# Altium footprint library USB Micro B Receptacle.PcbLib: 1 footprints
Each footprint in its own frame and in the unit in brackets; x right, y up, seen from the top. Pads: shape width x height; smd on the part's side, far side on the other; paste and mask are expansions set on the pad; w line width, h text height; cw(c..) or ccw(c..) is an arc to the next point about the centre after c.
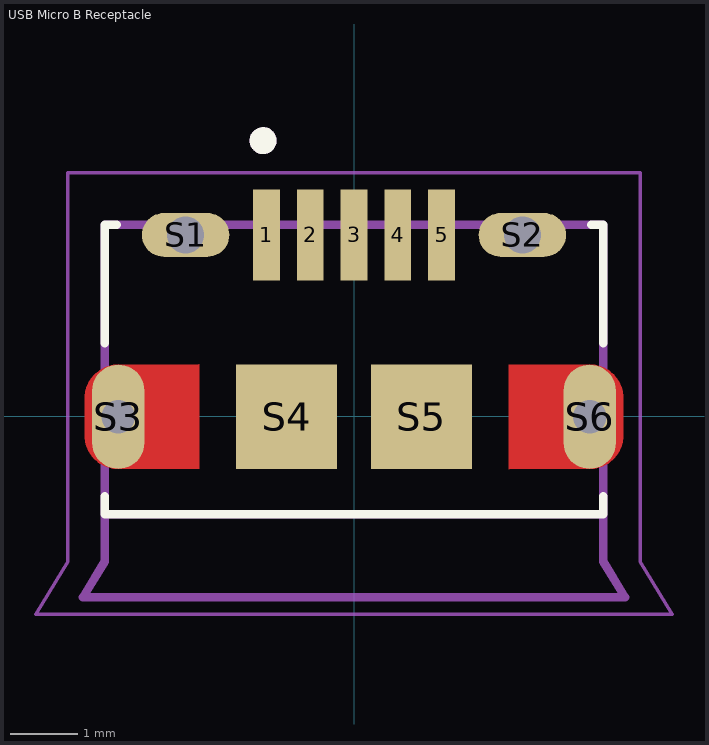
[diagram p0: the footprint, top view; thin cyan lines are the x and y axes]

## USB Micro B Receptacle [mm] "CONN RCPT USB2.0 MICRO B SMD R/A"
pads (11):
  rect 0.4x1.35 smd: 1(-1.3,2.69) 2(-0.65,2.69) 3(0,2.69) 4(0.65,2.69) 5(1.3,2.69)
  oval 1.3x0.65 hole 0.55: S1(-2.5,2.69) S2(2.5,2.69)
  oval 0.775x1.55 hole 0.5: S3(-3.5,-0.01) S6(3.5,-0.01)
  rect 1.5x1.55 smd: S4(-1,-0.01) S5(1,-0.01)
Top Layer:
  region: 193 vertices and 0 holes, not listed, extent -4,-0.785 -2.3,0.77
  region: 193 vertices and 0 holes, not listed, extent 2.3,-0.79 4,0.765
Top Overlay:
  circle w0.2: c-1.35,4.09 r0.1
  lines w0.127: -3.7,-1.19 -3.7,-1.46 3.7,-1.46 3.7,-1.19 ; -3.7,1.085 -3.7,2.84 -3.52,2.84 ; 3.52,2.84 3.7,2.84 3.7,1.085
Top Paste:
  drawing of 6 lines, arcs and shapes, not listed
Top Solder:
  region: -3.6,0.865 -2.2,0.865 -2.2,-0.885 -3.6,-0.885 -3.626,-0.884 -3.652,-0.882 -3.678,-0.879 -3.704,-0.874 -3.729,-0.868 -3.755,-0.861 -3.779,-0.852 -3.803,-0.842 -3.827,-0.831 -3.85,-0.818 -3.872,-0.804 -3.894,-0.79 -3.915,-0.774 -3.935,-0.757 -3.954,-0.739 -3.972,-0.72 -3.989,-0.7 -4.005,-0.679 -4.019,-0.657 -4.033,-0.635 -4.046,-0.612 -4.057,-0.588 -4.067,-0.564 -4.076,-0.54 -4.083,-0.514 -4.089,-0.489 -4.094,-0.463 -4.097,-0.437 -4.099,-0.411 -4.1,-0.385 -4.1,0.365 -4.099,0.391 -4.097,0.417 -4.094,0.443 -4.089,0.469 -4.083,0.494 -4.076,0.52 -4.067,0.544 -4.057,0.568 -4.046,0.592 -4.033,0.615 -4.019,0.637 -4.005,0.659 -3.989,0.68 -3.972,0.7 -3.954,0.719 -3.935,0.737 -3.915,0.754 -3.894,0.77 -3.872,0.784 -3.85,0.798 -3.827,0.811 -3.803,0.822 -3.779,0.832 -3.755,0.841 -3.729,0.848 -3.704,0.854 -3.678,0.859 -3.652,0.862 -3.626,0.864
  region: 3.6,-0.885 2.2,-0.885 2.2,0.865 3.6,0.865 3.626,0.864 3.652,0.862 3.678,0.859 3.704,0.854 3.729,0.848 3.755,0.841 3.779,0.832 3.803,0.822 3.827,0.811 3.85,0.798 3.872,0.784 3.894,0.77 3.915,0.754 3.935,0.737 3.954,0.719 3.972,0.7 3.989,0.68 4.005,0.659 4.019,0.637 4.033,0.615 4.046,0.592 4.057,0.568 4.067,0.544 4.076,0.52 4.083,0.494 4.089,0.469 4.094,0.443 4.097,0.417 4.099,0.391 4.1,0.365 4.1,-0.385 4.099,-0.411 4.097,-0.437 4.094,-0.463 4.089,-0.489 4.083,-0.514 4.076,-0.54 4.067,-0.564 4.057,-0.588 4.046,-0.612 4.033,-0.635 4.019,-0.657 4.005,-0.679 3.989,-0.7 3.972,-0.72 3.954,-0.739 3.935,-0.757 3.915,-0.774 3.894,-0.79 3.872,-0.804 3.85,-0.818 3.827,-0.831 3.803,-0.842 3.779,-0.852 3.755,-0.861 3.729,-0.868 3.704,-0.874 3.678,-0.879 3.652,-0.882 3.626,-0.884
Mechanical 1:
  lines w0: -3.75,-0.335 ccw(c-3.5,-0.335) -3.25,-0.335 -3.25,0.315 ccw(c-3.5,0.315) -3.75,0.315 -3.75,-0.335 ; -2.65,2.415 cw(c-2.65,2.69) -2.65,2.965 -2.35,2.965 cw(c-2.35,2.69) -2.35,2.415 -2.65,2.415 ; 2.35,2.415 cw(c2.35,2.69) 2.35,2.965 2.65,2.965 cw(c2.65,2.69) 2.65,2.415 2.35,2.415 ; 3.25,-0.335 ccw(c3.5,-0.335) 3.75,-0.335 3.75,0.315 ccw(c3.5,0.315) 3.25,0.315 3.25,-0.335
Mechanical 13:
  circle w0.2: c-1.35,4.09 r0.1
  circle w0.2: c-1.35,4.09 r0.1
  lines w0.127: -4.025,-2.69 -3.7,-2.16 ; -4.025,-2.69 4.025,-2.69 ; -4.025,-2.69 -3.7,-2.16 ; -4.025,-2.69 4.025,-2.69 ; -3.7,-2.16 -3.7,-1.46 ; -3.7,-2.16 -3.7,-1.46 ; -3.7,-1.46 3.7,-1.46 ; -3.7,-1.46 -3.7,2.84 ; -3.7,-1.46 3.7,-1.46 ; -3.7,-1.46 -3.7,2.84 ; -3.7,2.84 3.7,2.84 ; -3.7,2.84 3.7,2.84 ; 3.7,-2.16 4.025,-2.69 ; 3.7,-2.16 3.7,-1.46 ; 3.7,-2.16 4.025,-2.69 ; 3.7,-2.16 3.7,-1.46 ; 3.7,-1.46 3.7,2.84 ; 3.7,-1.46 3.7,2.84
  text "PCB END" at -1.95,-2.36 h1.88
  text "PCB END" at -1.95,-2.36 h1.88
Mechanical 15:
  lines w0.05: -4.725,-2.94 4.725,-2.94 4.25,-2.16 4.25,3.615 -4.25,3.615 -4.25,-2.16 -4.725,-2.94
3D body "10118194-0001LF--3DModel-STEP-56544.STEP": height 2.87, standoff -0.4, extent -4.005,-2.74 4.045,2.79